# EAGLE library part 74X245 (library bmowdisk)
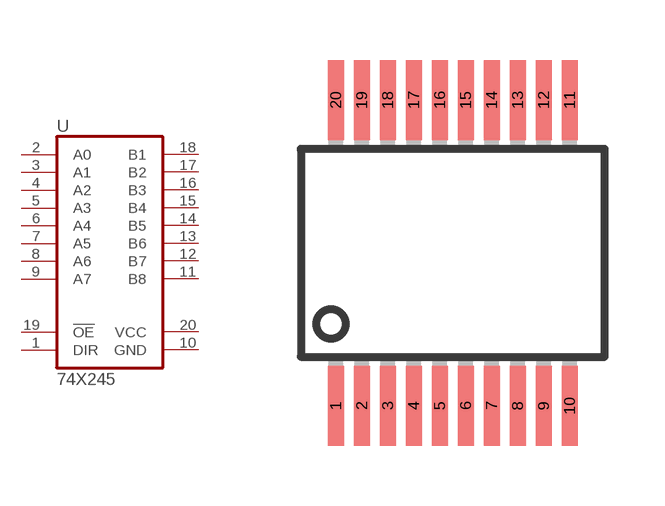
[diagram p5: symbol with the pads of SSOP20; footprint SSOP20]

Designator prefix -

## 74X245  [SSOP20]
1  DIR  in
2  A0  in
3  A1  in
4  A2  in
5  A3  in
6  A4  in
7  A5  in
8  A6  in
9  A7  in
10  GND  pwr
11  B8  out
12  B7  out
13  B6  out
14  B5  out
15  B4  out
16  B3  out
17  B2  out
18  B1  out
19  !OE  in
20  VCC  pwr

## Footprint SSOP20 (pad centres in mm)
Shrink Small Outline Package package type SS
smd 0.4 x 2: 1 -2.925,-3.825; 2 -2.275,-3.825; 3 -1.625,-3.825; 4 -0.975,-3.825; 5 -0.325,-3.825; 6 0.325,-3.825; 7 0.975,-3.825; 8 1.625,-3.825; 9 2.275,-3.825; 10 2.925,-3.825; 11 2.925,3.825; 12 2.275,3.825; 13 1.625,3.825; 14 0.975,3.825; 15 0.325,3.825; 16 -0.325,3.825; 17 -0.975,3.825; 18 -1.625,3.825; 19 -2.275,3.825; 20 -2.925,3.825